# Altium footprint library BMP.PcbLib: 1 footprints
Each footprint in its own frame and in the unit in brackets; x right, y up, seen from the top. Pads: shape width x height; smd on the part's side, far side on the other; paste and mask are expansions set on the pad; w line width, h text height; cw(c..) or ccw(c..) is an arc to the next point about the centre after c.
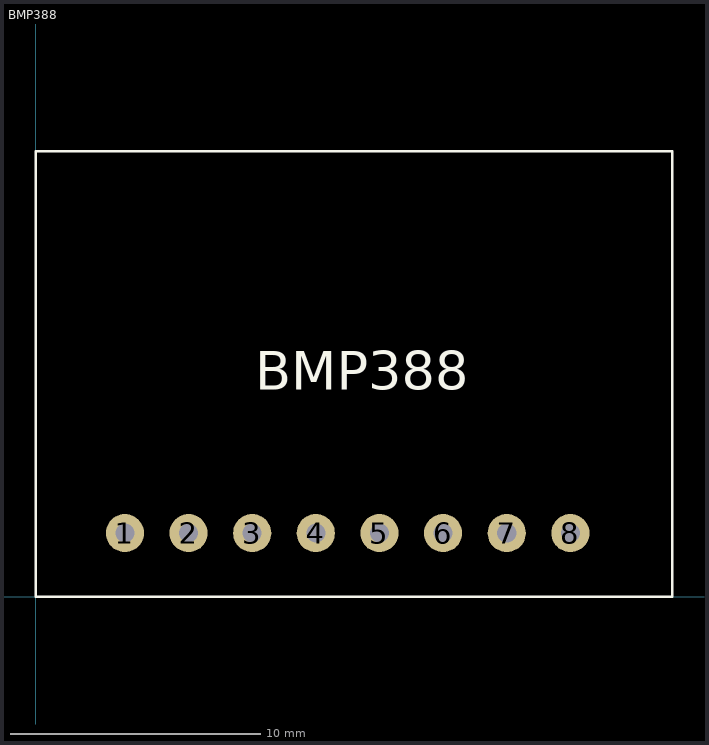
[diagram p0: the footprint, top view; thin cyan lines are the x and y axes]

## BMP388 [mil]
pads (8):
  round 60 hole 30: 1(140,100) 2(240,100) 3(340,100) 4(440,100) 5(540,100) 6(640,100) 7(740,100) 8(840,100)
Top Overlay:
  lines w3.94: 0,0 1000,0 1000,700 0,700 0,0
  text "BMP388" at 345,325 h60
3D body "Adafruit BMP388 Breakout.step": height 254.72, standoff -202.16, extent 65,0 915,650